# Altium schematic symbol library rmi.SchLib: 9 symbols
Pins are listed as number, name and electrical type; pins without a type are passive.

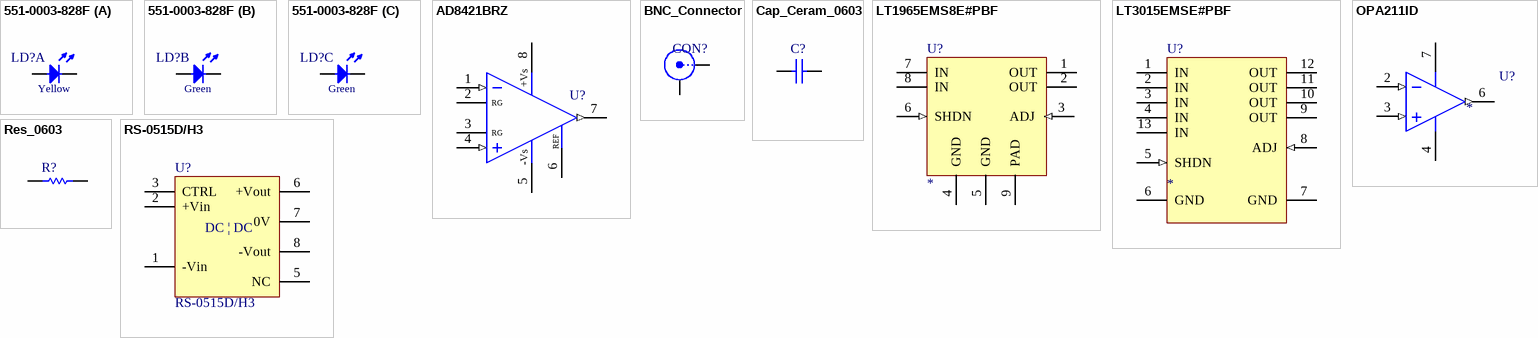
[diagram p0: symbols 551-0003-828F to RS-0515D/H3]

## 551-0003-828F
designator LD?  (value not drawn)
LED CBI 3MM YW/GN/GN TRI LEVEL; Manufacturer: Dialight; PartNumber: 551-0003-828F; ComponentLink1Description: Datasheet; ComponentLink1URL: http://www.dialight.com/pubs/dwg/C17155A.pdf; VendorLink: http://www.digikey.com/product-search/en?vendor=0&keywords=551-0003-828F
footprint LED_TRIPLE (LED CBI 3MM YW/GN/GN TRI LEVEL)
part A pins: 5 C, 6 A
part B pins: 3 C, 4 A
part C pins: 1 C, 2 A
part A text: Yellow
part B text: Green
part C text: Green

## AD8421BRZ
designator U?
3 nV/√Hz, Low Power  Instrumentation Amplifier; Manufacturer: Analog Devices; PartNumber: AD8421BRZ; VendorLink: http://www.digikey.com/product-detail/en/analog-devices-inc/AD8421BRZ/AD8421BRZ-ND/3340513; PackageReference: SOIC_8; ComponentLink1Description: Datasheet; ComponentLink1URL: http://www.analog.com/media/en/technical-documentation/data-sheets/AD8421.pdf
footprint SOIC_8_L (SOIC, 8-Leads, Body 4.9x3.9mm, Pitch 1.27mm, IPC High Density)
footprint SOIC_8_M (SOIC, 8-Leads, Body 4.9x3.9mm, Pitch 1.27mm, IPC Low Density)
footprint SOIC_8_N (SOIC, 8-Leads, Body 4.9x3.9mm, Pitch 1.27mm, IPC Medium Density)
pins: 1 -IN (in), 2 RG, 3 RG, 4 +IN (in), 5 -Vs (power), 6 REF, 7 Vout (out), 8 +Vs (power)

## BNC_Connector
designator CON?  (value not drawn)
BNC Jack Right Angle PCB; ComponentLink1Description: Datasheet; PackageReference: BNC_JACK_FEMALE
footprint BNC_RIGHTANGLE (BNC Jack Female Socket Right Angle)
pins: 1 X, 2 Y

## Cap_Ceram_0603
designator C?  (value not drawn)
Ceramic Chip Capacitor SMD 0603; PackageReference: 0603; ComponentLink1Description: Datasheet
footprint CAP_CERAM_0603 (Chip Capacitor; Body 1.6 x 0.8 mm (LxW typ))
pins: 1, 2

## LT1965EMS8E#PBF
designator U?
1.1A, Low Noise,  Low Dropout Linear Regulator; Manufacturer: Linear Technology; PartNumber: LT1965EMS8E#PBF; PackageReference: MSOP_8; ComponentLink1Description: Datasheet; ComponentLink1URL: http://cds.linear.com/docs/en/datasheet/1965fb.pdf; VendorLink: http://www.digikey.com/product-detail/en/LT1965EMS8E%23PBF/LT1965EMS8E%23PBF-ND/1730226
footprint MSOP8-EP3 (MSOP with Exposed Pad; 8 Leads; Body Width 3 mm; Pitch 0.65 mm)
pins: 1 OUT (power), 2 OUT (power), 3 ADJ (in), 4 GND (power), 5 GND (power), 6 SHDN (in), 7 IN (power), 8 IN (power), 9 PAD (power)

## LT3015EMSE#PBF
designator U?
1.5A, Low Noise,  Negative Linear Regulator  with Precision Current Limit; Manufacturer: Linear Technology; PartNumber: LT3015EMSE#PBF; PackageReference: MSOP_12; ComponentLink1Description: Datasheet; ComponentLink1URL: http://cds.linear.com/docs/en/datasheet/3015fb.pdf; VendorLink: http://www.digikey.com/product-detail/en/LT3015EMSE%23PBF/LT3015EMSE%23PBF-ND/2752758
footprint MSOP12-EP (MSOP with Exposed Pad; 12 Leads; Body Width 3 mm; Pitch 0.65 mm)
pins: 1 IN (power), 2 IN (power), 3 IN (power), 4 IN (power), 5 SHDN (in), 6 GND (power), 7 GND (power), 8 ADJ (in), 9 OUT (power), 10 OUT (power), 11 OUT (power), 12 OUT (power), 13 IN (power)

## OPA211ID
designator U?
1.1nV/√Hz Noise, Low Power, Precision Operational Amplifier; Manufacturer: Texas Instruments; PartNumber: OPA211ID; PackageReference: SOIC_8; ComponentLink1Description: Datasheet; ComponentLink1URL: http://www.ti.com/lit/ds/symlink/opa211.pdf; VendorLink: http://www.digikey.com/product-detail/en/OPA211IDR/OPA211IDR-ND/2047464
footprint SOIC_8_N (SOIC, 8-Leads, Body 4.9x3.9mm, Pitch 1.27mm, IPC Medium Density)
footprint SOIC_8_L (SOIC, 8-Leads, Body 4.9x3.9mm, Pitch 1.27mm, IPC High Density)
footprint SOIC_8_M (SOIC, 8-Leads, Body 4.9x3.9mm, Pitch 1.27mm, IPC Low Density)
pins: 1 NC hidden, 2 IN- (in), 3 IN+ (in), 4 V- (power), 5 NC hidden, 6 OUT (out), 7 V+ (power), 8 NC hidden

## Res_0603
designator R?  (value not drawn)
Chip Resistor SMD 0603; ComponentLink1Description: Datasheet; PackageReference: 0603
footprint R_0603 (Chip Resistor; Body 1.6 x 0.8 mm (LxW typ))
pins: 1, 2

## RS-0515D/H3
designator U?
CONV DC/DC 2W 4.5-9VIN +/-15V; Manufacturer: Recom Power; Number of Outputs: 2; Voltage - Input (Min): 4.5V; Voltage - Input (Max): 9V; Voltage - Output 1: 15V; Voltage - Output 2: -15V; Current - Output (Max): 67mA, 67mA; Voltage - Isolation: 3kV (3000V); Efficiency: 80%; Part Number: RS-0515D/H3; Supplier 1: Digi-Key; Supplier Part Number 1: 945-1977-5-ND; Manufacturer Part Number: RS-0515D/H3; RoHS: RoHS Compliant; Category: Power Supplies - Board Mount; Stock 1: 38; Pricing 1: 1=18.43, 5=18.286, 22=18.14409, 44=17.86045, 66=17.01, 110=15.59255, 250=15.309 (USD); Packaging: Tube; Type: Isolated Module; Voltage - Output 3: -; Power (Watts) - Manufacture Series: 2W; Features: Remote On/Off, SCP; Mounting Type: Through Hole; Package / Case: 8-SIP Module (7 Leads); Size / Dimension: 0.86" L x 0.36" W x 0.44" H (21.8mm x 9.2mm x 11.1mm); Operating Temperature: -40°C ~ 85°C; Power (Watts) - Max: 2W; ComponentLink1URL: http://www.recom-power.com/pdf/Econoline/RS-S_D_Z.pdf; ComponentLink1Description: http://www.recom-power.com/pdf/Econoline/RS-S_D_Z.pdf
footprint SIP7 (8-SIP Module (7 Leads))
pins: 1 -Vin, 2 +Vin, 3 CTRL, 5 NC, 6 +Vout, 7 0V, 8 -Vout
text: DC | DC